# Altium footprint library THN 20-xxxx.PcbLib: 1 footprints
Each footprint in its own frame and in the unit in brackets; x right, y up, seen from the top. Pads: shape width x height; smd on the part's side, far side on the other; paste and mask are expansions set on the pad; w line width, h text height; cw(c..) or ccw(c..) is an arc to the next point about the centre after c.
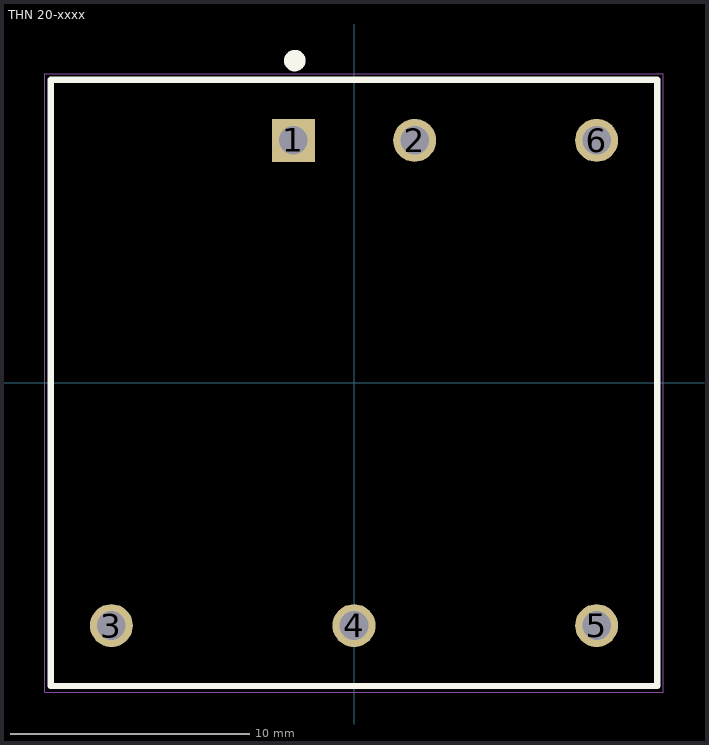
[diagram p0: the footprint, top view; thin cyan lines are the x and y axes]

## THN 20-xxxx [mm]
pads (6):
  rect 1.8x1.8 hole 1.2: 1(-2.54,10.16)
  round 1.8 hole 1.2: 2(2.54,10.16) 3(-10.16,-10.16) 4(0,-10.16) 5(10.16,-10.16) 6(10.16,10.16)
Top Overlay:
  circle w0.5: c-2.48,13.502 r0.2
  lines w0.254: -12.7,-12.7 -12.7,12.7 12.7,12.7 12.7,-12.7 -12.7,-12.7
Mechanical 15:
  lines w0.05: -12.95,-12.95 -12.95,12.95 12.95,12.95 12.95,-12.95 -12.95,-12.95
3D body "THN 20.STEP": height 10, standoff -5.5, extent -12.736,-12.726 12.664,12.674